# EAGLE library part µZ-FCI (library microzed)
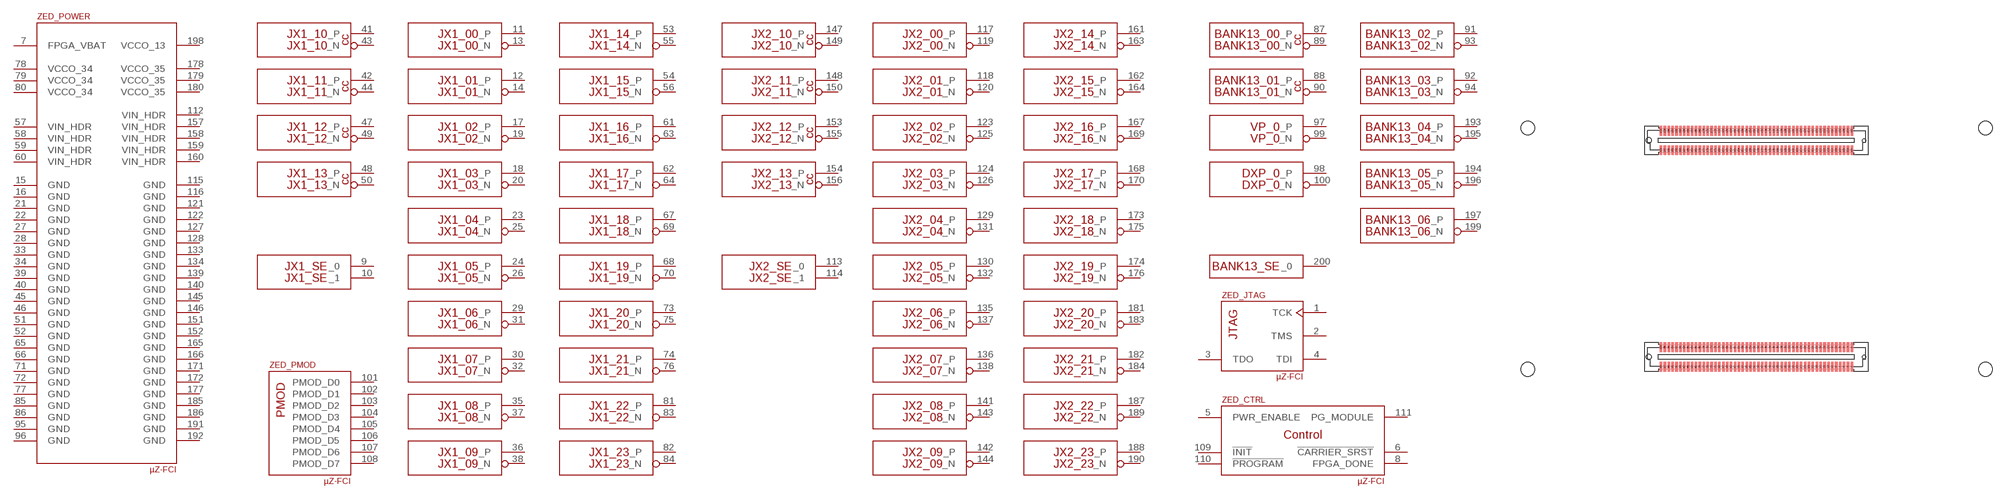
[diagram p1: symbol with the pads of µZ; footprint µZ]

Designator prefix ZED; gates _CTRL=CTRL JX1_10=LVDS_CC JX1_11=LVDS_CC JX1_12=LVDS_CC JX1_13=LVDS_CC JX1_00=LVDS JX1_01=LVDS JX1_02=LVDS JX1_03=LVDS JX1_04=LVDS JX1_05=LVDS JX1_06=LVDS JX1_07=LVDS JX1_08=LVDS JX1_09=LVDS JX1_14=LVDS JX1_15=LVDS JX1_16=LVDS JX1_17=LVDS JX1_18=LVDS JX1_19=LVDS JX1_20=LVDS JX1_21=LVDS JX1_22=LVDS JX1_23=LVDS JX2_00=LVDS JX2_01=LVDS JX2_02=LVDS JX2_03=LVDS JX2_04=LVDS JX2_05=LVDS JX2_06=LVDS JX2_07=LVDS JX2_08=LVDS JX2_09=LVDS _POWER=POWER _JTAG=JTAG JX2_14=LVDS JX2_15=LVDS JX2_16=LVDS JX2_17=LVDS JX2_18=LVDS JX2_19=LVDS JX2_20=LVDS JX2_21=LVDS JX2_22=LVDS JX2_23=LVDS JX2_10=LVDS_CC JX2_11=LVDS_CC JX2_12=LVDS_CC JX2_13=LVDS_CC BANK13_00=LVDS_CC BANK13_01=LVDS_CC BANK13_02=LVDS BANK13_03=LVDS BANK13_04=LVDS BANK13_05=LVDS BANK13_06=LVDS _PMOD=PMOD JX1_SE=SE JX2_SE=SE VP_0=LVDS DXP_0=LVDS BANK13_SE=SE0

## µZ-FCI_LVDS  [µZ]
1  _JTAG:TCK  out
2  _JTAG:TMS  out
3  _JTAG:TDO  in
4  _JTAG:TDI  out
5  _CTRL:PWR_ENABLE  in
6  _CTRL:!CARRIER_SRST  out
7  _POWER:FPGA_VBAT  pwr
8  _CTRL:FPGA_DONE  out
9  JX1_SE:_0
10  JX1_SE:_1
11  JX1_00:_P
12  JX1_01:_P
13  JX1_00:_N
14  JX1_01:_N
15  _POWER:GND  pwr
16  _POWER:GND  pwr
17  JX1_02:_P
18  JX1_03:_P
19  JX1_02:_N
20  JX1_03:_N
21  _POWER:GND  pwr
22  _POWER:GND  pwr
23  JX1_04:_P
24  JX1_05:_P
25  JX1_04:_N
26  JX1_05:_N
27  _POWER:GND  pwr
28  _POWER:GND  pwr
29  JX1_06:_P
30  JX1_07:_P
31  JX1_06:_N
32  JX1_07:_N
33  _POWER:GND  pwr
34  _POWER:GND  pwr
35  JX1_08:_P
36  JX1_09:_P
37  JX1_08:_N
38  JX1_09:_N
39  _POWER:GND  pwr
40  _POWER:GND  pwr
41  JX1_10:_P
42  JX1_11:_P
43  JX1_10:_N
44  JX1_11:_N
45  _POWER:GND  pwr
46  _POWER:GND  pwr
47  JX1_12:_P
48  JX1_13:_P
49  JX1_12:_N
50  JX1_13:_N
51  _POWER:GND  pwr
52  _POWER:GND  pwr
53  JX1_14:_P
54  JX1_15:_P
55  JX1_14:_N
56  JX1_15:_N
57  _POWER:VIN_HDR  pwr
58  _POWER:VIN_HDR  pwr
59  _POWER:VIN_HDR  pwr
60  _POWER:VIN_HDR  pwr
61  JX1_16:_P
62  JX1_17:_P
63  JX1_16:_N
64  JX1_17:_N
65  _POWER:GND  pwr
66  _POWER:GND  pwr
67  JX1_18:_P
68  JX1_19:_P
69  JX1_18:_N
70  JX1_19:_N
71  _POWER:GND  pwr
72  _POWER:GND  pwr
73  JX1_20:_P
74  JX1_21:_P
75  JX1_20:_N
76  JX1_21:_N
77  _POWER:GND  pwr
78  _POWER:VCCO_34  pwr
79  _POWER:VCCO_34  pwr
80  _POWER:VCCO_34  pwr
81  JX1_22:_P
82  JX1_23:_P
83  JX1_22:_N
84  JX1_23:_N
85  _POWER:GND  pwr
86  _POWER:GND  pwr
87  BANK13_00:_P
88  BANK13_01:_P
89  BANK13_00:_N
90  BANK13_01:_N
91  BANK13_02:_P
92  BANK13_03:_P
93  BANK13_02:_N
94  BANK13_03:_N
95  _POWER:GND  pwr
96  _POWER:GND  pwr
97  VP_0:_P
98  DXP_0:_P
99  VP_0:_N
100  DXP_0:_N
101  _PMOD:PMOD_D0
102  _PMOD:PMOD_D1
103  _PMOD:PMOD_D2
104  _PMOD:PMOD_D3
105  _PMOD:PMOD_D4
106  _PMOD:PMOD_D5
107  _PMOD:PMOD_D6
108  _PMOD:PMOD_D7
109  _CTRL:!INIT  in
110  _CTRL:!PROGRAM  in
111  _CTRL:PG_MODULE  out
112  _POWER:VIN_HDR  pwr
113  JX2_SE:_0
114  JX2_SE:_1
115  _POWER:GND  pwr
116  _POWER:GND  pwr
117  JX2_00:_P
118  JX2_01:_P
119  JX2_00:_N
120  JX2_01:_N
121  _POWER:GND  pwr
122  _POWER:GND  pwr
123  JX2_02:_P
124  JX2_03:_P
125  JX2_02:_N
126  JX2_03:_N
127  _POWER:GND  pwr
128  _POWER:GND  pwr
129  JX2_04:_P
130  JX2_05:_P
131  JX2_04:_N
132  JX2_05:_N
133  _POWER:GND  pwr
134  _POWER:GND  pwr
135  JX2_06:_P
136  JX2_07:_P
137  JX2_06:_N
138  JX2_07:_N
139  _POWER:GND  pwr
140  _POWER:GND  pwr
141  JX2_08:_P
142  JX2_09:_P
143  JX2_08:_N
144  JX2_09:_N
145  _POWER:GND  pwr
146  _POWER:GND  pwr
147  JX2_10:_P
148  JX2_11:_P
149  JX2_10:_N
150  JX2_11:_N
151  _POWER:GND  pwr
152  _POWER:GND  pwr
153  JX2_12:_P
154  JX2_13:_P
155  JX2_12:_N
156  JX2_13:_N
157  _POWER:VIN_HDR  pwr
158  _POWER:VIN_HDR  pwr
159  _POWER:VIN_HDR  pwr
160  _POWER:VIN_HDR  pwr
161  JX2_14:_P
162  JX2_15:_P
163  JX2_14:_N
164  JX2_15:_N
165  _POWER:GND  pwr
166  _POWER:GND  pwr
167  JX2_16:_P
168  JX2_17:_P
169  JX2_16:_N
170  JX2_17:_N
171  _POWER:GND  pwr
172  _POWER:GND  pwr
173  JX2_18:_P
174  JX2_19:_P
175  JX2_18:_N
176  JX2_19:_N
177  _POWER:GND  pwr
178  _POWER:VCCO_35  pwr
179  _POWER:VCCO_35  pwr
180  _POWER:VCCO_35  pwr
181  JX2_20:_P
182  JX2_21:_P
183  JX2_20:_N
184  JX2_21:_N
185  _POWER:GND  pwr
186  _POWER:GND  pwr
187  JX2_22:_P
188  JX2_23:_P
189  JX2_22:_N
190  JX2_23:_N
191  _POWER:GND  pwr
192  _POWER:GND  pwr
193  BANK13_04:_P
194  BANK13_05:_P
195  BANK13_04:_N
196  BANK13_05:_N
197  BANK13_06:_P
198  _POWER:VCCO_13  pwr
199  BANK13_06:_N
200  BANK13_SE:_0

## Footprint µZ (pad centres in mm)
smd 0.5 x 2: 1 70.351,4.349; 2 70.351,8.349; 3 69.551,4.349; 4 69.551,8.349; 5 68.751,4.349; 6 68.751,8.349; 7 67.951,4.349; 8 67.951,8.349; 9 67.151,4.349; 10 67.151,8.349; 11 66.351,4.349; 12 66.351,8.349; 13 65.551,4.349; 14 65.551,8.349; 15 64.751,4.349; 16 64.751,8.349; 17 63.951,4.349; 18 63.951,8.349; 19 63.151,4.349; 20 63.151,8.349; 21 62.351,4.349; 22 62.351,8.349; 23 61.551,4.349; 24 61.551,8.349; 25 60.751,4.349; 26 60.751,8.349; 27 59.951,4.349; 28 59.951,8.349; 29 59.151,4.349; 30 59.151,8.349; 31 58.351,4.349; 32 58.351,8.349; 33 57.551,4.349; 34 57.551,8.349; 35 56.751,4.349; 36 56.751,8.349; 37 55.951,4.349; 38 55.951,8.349; 39 55.151,4.349; 40 55.151,8.349; 41 54.351,4.349; 42 54.351,8.349; 43 53.551,4.349; 44 53.551,8.349; 45 52.751,4.349; 46 52.751,8.349; 47 51.951,4.349; 48 51.951,8.349; 49 51.151,4.349; 50 51.151,8.349; 51 50.351,4.349; 52 50.351,8.349; 53 49.551,4.349; 54 49.551,8.349; 55 48.751,4.349; 56 48.751,8.349; 57 47.951,4.349; 58 47.951,8.349; 59 47.151,4.349; 60 47.151,8.349; 61 46.351,4.349; 62 46.351,8.349; 63 45.551,4.349; 64 45.551,8.349; 65 44.751,4.349; 66 44.751,8.349; 67 43.951,4.349; 68 43.951,8.349; 69 43.151,4.349; 70 43.151,8.349; 71 42.351,4.349; 72 42.351,8.349; 73 41.551,4.349; 74 41.551,8.349; 75 40.751,4.349; 76 40.751,8.349; 77 39.951,4.349; 78 39.951,8.349; 79 39.151,4.349; 80 39.151,8.349; 81 38.351,4.349; 82 38.351,8.349; 83 37.551,4.349; 84 37.551,8.349; 85 36.751,4.349; 86 36.751,8.349; 87 35.951,4.349; 88 35.951,8.349; 89 35.151,4.349; 90 35.151,8.349; 91 34.351,4.349; 92 34.351,8.349; 93 33.551,4.349; 94 33.551,8.349; 95 32.751,4.349; 96 32.751,8.349; 97 31.951,4.349; 98 31.951,8.349; 99 31.151,4.349; 100 31.151,8.349; 101 70.351,48.801; 102 70.351,52.801; 103 69.551,48.801; 104 69.551,52.801; 105 68.751,48.801; 106 68.751,52.801; 107 67.951,48.801; 108 67.951,52.801; 109 67.151,48.801; 110 67.151,52.801; 111 66.351,48.801; 112 66.351,52.801; 113 65.551,48.801; 114 65.551,52.801; 115 64.751,48.801; 116 64.751,52.801; 117 63.951,48.801; 118 63.951,52.801; 119 63.151,48.801; 120 63.151,52.801; 121 62.351,48.801; 122 62.351,52.801; 123 61.551,48.801; 124 61.551,52.801; 125 60.751,48.801; 126 60.751,52.801; 127 59.951,48.801; 128 59.951,52.801; 129 59.151,48.801; 130 59.151,52.801; 131 58.351,48.801; 132 58.351,52.801; 133 57.551,48.801; 134 57.551,52.801; 135 56.751,48.801; 136 56.751,52.801; 137 55.951,48.801; 138 55.951,52.801; 139 55.151,48.801; 140 55.151,52.801; 141 54.351,48.801; 142 54.351,52.801; 143 53.551,48.801; 144 53.551,52.801; 145 52.751,48.801; 146 52.751,52.801; 147 51.951,48.801; 148 51.951,52.801; 149 51.151,48.801; 150 51.151,52.801; 151 50.351,48.801; 152 50.351,52.801; 153 49.551,48.801; 154 49.551,52.801; 155 48.751,48.801; 156 48.751,52.801; 157 47.951,48.801; 158 47.951,52.801; 159 47.151,48.801; 160 47.151,52.801; 161 46.351,48.801; 162 46.351,52.801; 163 45.551,48.801; 164 45.551,52.801; 165 44.751,48.801; 166 44.751,52.801; 167 43.951,48.801; 168 43.951,52.801; 169 43.151,48.801; 170 43.151,52.801; 171 42.351,48.801; 172 42.351,52.801; 173 41.551,48.801; 174 41.551,52.801; 175 40.751,48.801; 176 40.751,52.801; 177 39.951,48.801; 178 39.951,52.801; 179 39.151,48.801; 180 39.151,52.801; 181 38.351,48.801; 182 38.351,52.801; 183 37.551,48.801; 184 37.551,52.801; 185 36.751,48.801; 186 36.751,52.801; 187 35.951,48.801; 188 35.951,52.801; 189 35.151,48.801; 190 35.151,52.801; 191 34.351,48.801; 192 34.351,52.801; 193 33.551,48.801; 194 33.551,52.801; 195 32.751,48.801; 196 32.751,52.801; 197 31.951,48.801; 198 31.951,52.801; 199 31.151,48.801; 200 31.151,52.801
hole 2.8 at 3.81,3.81
hole 2.8 at 3.81,53.34
hole 2.8 at 97.79,3.81
hole 2.8 at 97.79,53.34
hole 1.1 at 28.651,6.349
hole 0.7 at 72.851,6.349
hole 1.1 at 28.651,50.801
hole 0.7 at 72.851,50.801